# EAGLE library part M48Z02 (library memory-rp)
5V, 256 Kbit (32 Kb x8) TIMEKEEPER® SRAM Source: http://www.st.com/stonline/books/pdf/docs/2611.pdf#search=%22M48T35%22
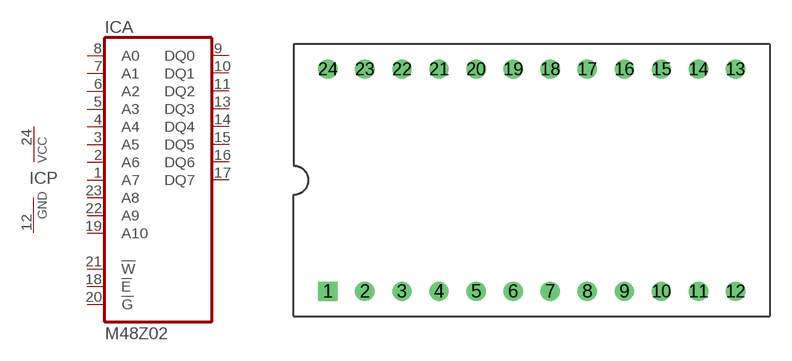
[diagram p79: symbol with the pads of PCDIP24-CAPHAT; footprint PCDIP24-CAPHAT]

Designator prefix IC; gates P=PWRN A=M48Z02

## M48Z02PC  [PCDIP24-CAPHAT]
1  A:A7  in
2  A:A6  in
3  A:A5  in
4  A:A4  in
5  A:A3  in
6  A:A2  in
7  A:A1  in
8  A:A0  in
9  A:DQ0
10  A:DQ1
11  A:DQ2
12  P:GND  pwr
13  A:DQ3
14  A:DQ4
15  A:DQ5
16  A:DQ6
17  A:DQ7
18  A:!E  in
19  A:A10  in
20  A:!G  in
21  A:!W  in
22  A:A9  in
23  A:A8  in
24  P:VCC  pwr

## Footprint PCDIP24-CAPHAT (pad centres in mm)
28-pin PCDIP, CAPHAT(TM) Package PCDIP28 (PC) Source: http://www.st.com/stonline/books/pdf/docs/2611.pdf#search=%22M48T35%22
drill 0.813 square: 1 -16.51,-7.62
drill 0.813: 2 -13.97,-7.62; 3 -11.43,-7.62; 4 -8.89,-7.62; 5 -6.35,-7.62; 6 -3.81,-7.62; 7 -1.27,-7.62; 8 1.27,-7.62; 9 3.81,-7.62; 10 6.35,-7.62; 11 8.89,-7.62; 12 11.43,-7.62; 13 11.43,7.62; 14 8.89,7.62; 15 6.35,7.62; 16 3.81,7.62; 17 1.27,7.62; 18 -1.27,7.62; 19 -3.81,7.62; 20 -6.35,7.62; 21 -8.89,7.62; 22 -11.43,7.62; 23 -13.97,7.62; 24 -16.51,7.62